# EAGLE library part USB_C_CONNECTOR (library quentin)
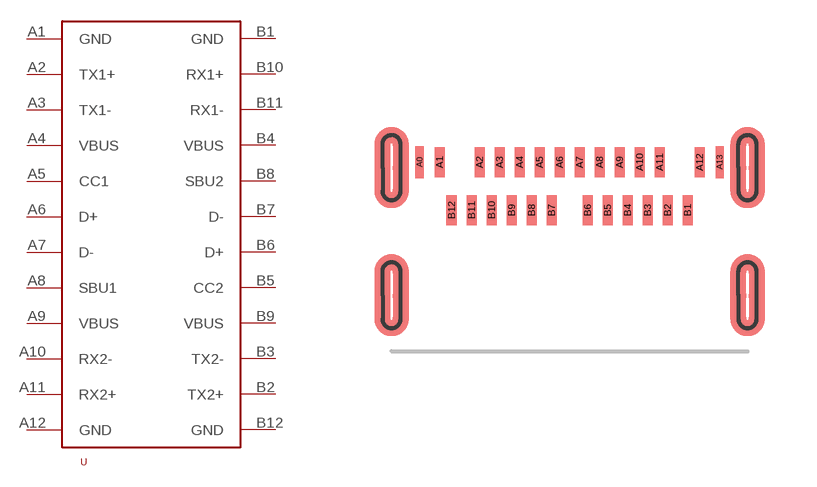
[diagram p28: symbol with the pads of USB_C_AMPHENOL; footprint USB_C_AMPHENOL]

Designator prefix -

## USB_C_CONNECTOR  [USB_C_AMPHENOL]
A1  GND
A2  TX1+
A3  TX1-
A4  VBUS
A5  CC1
A6  D+
A7  D-
A8  SBU1
A9  VBUS
A10  RX2-
A11  RX2+
A12  GND
B1  GND
B2  TX2+
B3  TX2-
B4  VBUS
B5  CC2
B6  D+
B7  D-
B8  SBU2
B9  VBUS
B10  RX1+
B11  RX1-
B12  GND

## Footprint USB_C_AMPHENOL (pad centres in mm)
smd 0.2 x 0.8: A0 -3.75,1.2; A13 3.75,1.2
smd 0.25 x 0.75: A1 -3.25,1.2; A2 -2.25,1.2; A3 -1.75,1.2; A4 -1.25,1.2; A5 -0.75,1.2; A6 -0.25,1.2; A7 0.25,1.2; A8 0.75,1.2; A9 1.25,1.2; A10 1.75,1.2; A11 2.25,1.2; A12 3.25,1.2; B1 2.95,0; B2 2.45,0; B3 1.95,0; B4 1.45,0; B5 0.95,0; B6 0.45,0; B7 -0.45,0; B8 -0.95,0; B9 -1.45,0; B10 -1.95,0; B11 -2.45,0; B12 -2.95,0